# Altium footprint library D0603_B.PcbLib: 1 footprints
Each footprint in its own frame and in the unit in brackets; x right, y up, seen from the top. Pads: shape width x height; smd on the part's side, far side on the other; paste and mask are expansions set on the pad; w line width, h text height; cw(c..) or ccw(c..) is an arc to the next point about the centre after c.
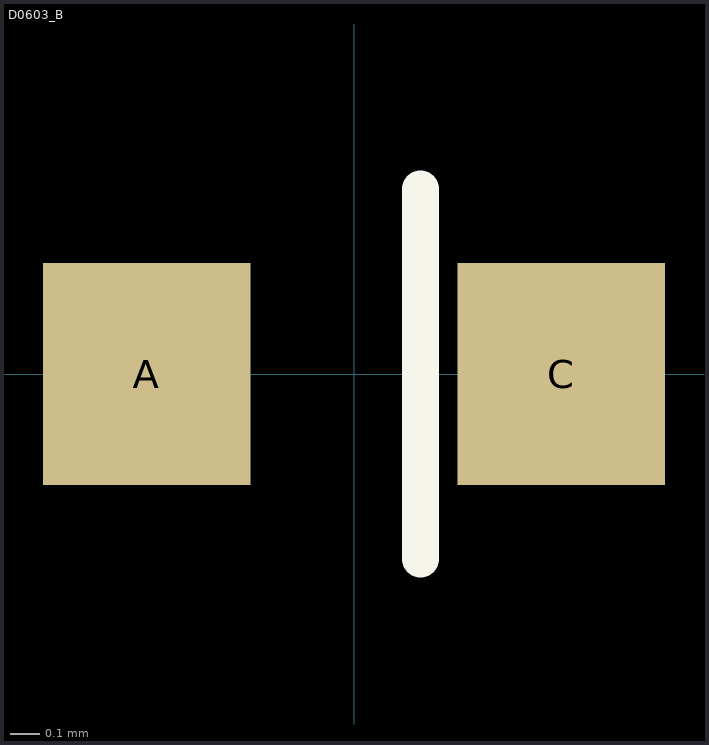
[diagram p0: the footprint, top view; thin cyan lines are the x and y axes]

## D0603_B [mil]
pads (2):
  rect 28x30 smd: A(-28,0) C(28,0)
TopOverlay:
  lines w5: 9,-25 9,25
3D body: height 35.43, standoff 0, extent -32.46,-17 34.46,18.43